# EAGLE library part B9P-VH (library con-jst-vh)
JST VH Series header 3.96mm pitch disconnectable crimp style connectors, vertical (side entry type), 9 pins
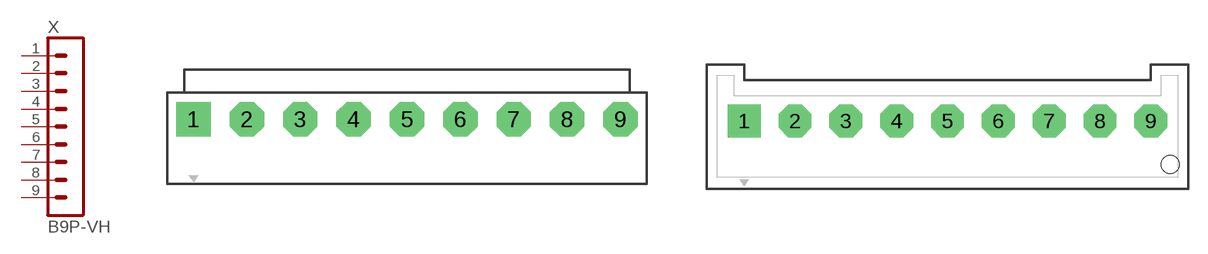
[diagram p3: symbol with the pads of B9P-VH; footprints B9P-VH, B9P-VH-FB-B]

Designator prefix X

## B9P-VH  [B9P-VH]
1  1  pas
2  2  pas
3  3  pas
4  4  pas
5  5  pas
6  6  pas
7  7  pas
8  8  pas
9  9  pas

## B9P-VH-B  [B9P-VH]
Pads as for B9P-VH

## B9P-VH-FB-B  [B9P-VH-FB-B]
Pads as for B9P-VH

## Footprint B9P-VH (pad centres in mm)
JST VH Series header 3.96mm pitch disconnectable crimp style connectors, vertical (top entry type), 9 pins
drill 1.7 pad 2.54 square: 1 -15.84,0
drill 1.7 pad 2.54 octagon: 2 -11.88,0; 3 -7.92,0; 4 -3.96,0; 5 0,0; 6 3.96,0; 7 7.92,0; 8 11.88,0; 9 15.84,0

## Footprint B9P-VH-FB-B (pad centres in mm)
JST VH Series header 3.96mm pitch disconnectable crimp style connectors, vertical (top entry type), 9 pins
drill 1.7 pad 2.54 square: 1 -15.84,0
drill 1.7 pad 2.54 octagon: 2 -11.88,0; 3 -7.92,0; 4 -3.96,0; 5 0,0; 6 3.96,0; 7 7.92,0; 8 11.88,0; 9 15.84,0
hole 1.4 at 17.34,-3.4